# Altium schematic symbol library AH9246.SchLib: 1 symbol
Pins are listed as number, name and electrical type; pins without a type are passive.

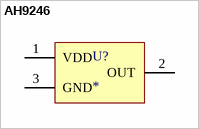
[diagram p0: symbol AH9246]

## AH9246
designator U?
pins: 1 VDD, 2 OUT, 3 GND